# EAGLE library part ETA3000 (library Mixed)
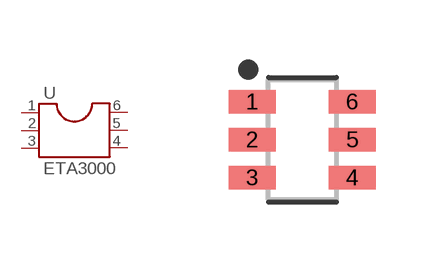
[diagram p0: symbol with the pads of SOT95P280X115-6N; footprint SOT95P280X115-6N]

Designator prefix -

## ETA3000  [SOT95P280X115-6N]
1  ISET  pas
2  BATN  pas
3  BıAS  pas
4  SW  pas
5  BATP  pas
6  BATC  pas

## Footprint SOT95P280X115-6N (pad centres in mm)
6-SOT23, 0.95 mm pitch, 2.80 mm span, 2.92 X 1.60 X 1.15 mm body 6-pin SOT23 package with 0.95 mm pitch, 2.80 mm span with body size 2.92 X 1.60 X 1.15 mm
smd 1.171 x 0.589: 1 -1.25,0.95; 2 -1.25,0; 3 -1.25,-0.95; 4 1.25,-0.95; 5 1.25,0; 6 1.25,0.95